# Altium footprint library Keystone-5011.PcbLib: 1 footprints
Each footprint in its own frame and in the unit in brackets; x right, y up, seen from the top. Pads: shape width x height; smd on the part's side, far side on the other; paste and mask are expansions set on the pad; w line width, h text height; cw(c..) or ccw(c..) is an arc to the next point about the centre after c.
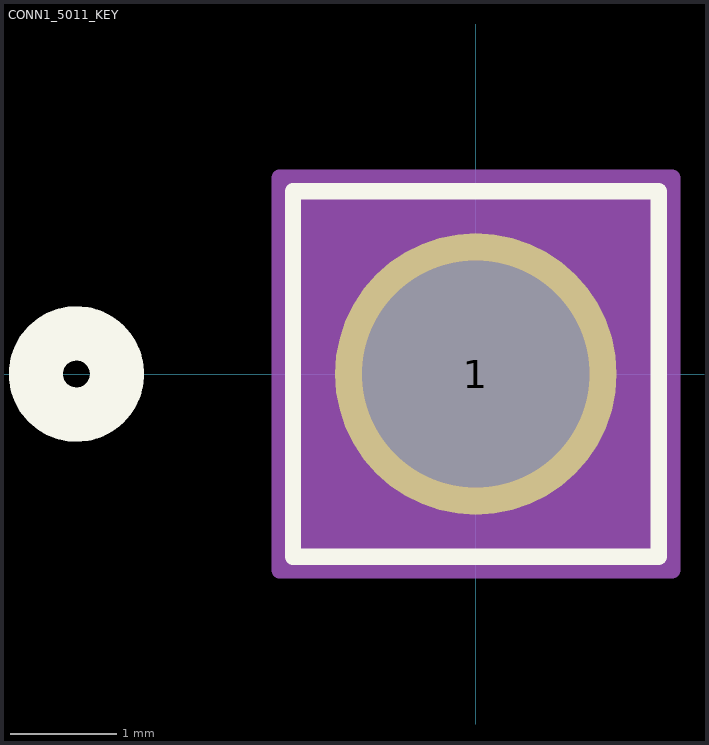
[diagram p0: the footprint, top view; thin cyan lines are the x and y axes]

## CONN1_5011_KEY [mil]
pads (1):
  round 104 hole 84 paste-52 mask+0: 1(0,0)
Top Overlay:
  circle w20: c-147.5,0 r15
  lines w6: -67.5,-67.5 67.5,-67.5 67.5,67.5 -67.5,67.5 -67.5,-67.5
  text ".Designator" at -137.5,-25 h50
Bottom Overlay:
  circle w20: c-147.5,0 r15
Mechanical 13:
  circle w20: c0,0 r15
  lines w1: -62.5,-62.5 62.5,-62.5 62.5,62.5 -62.5,62.5 -62.5,-62.5
  text ".Designator" at -137.5,-25 h50
Mechanical 15:
  region: 72.5,72.5 -72.5,72.5 -72.5,-72.5 72.5,-72.5
  lines w6: -72.5,-72.5 -72.5,72.5 72.5,72.5 72.5,-72.5 -72.5,-72.5